# EAGLE library part ESP8266-01 (library lcTempLogger)
ESP8266 Wifi module 01
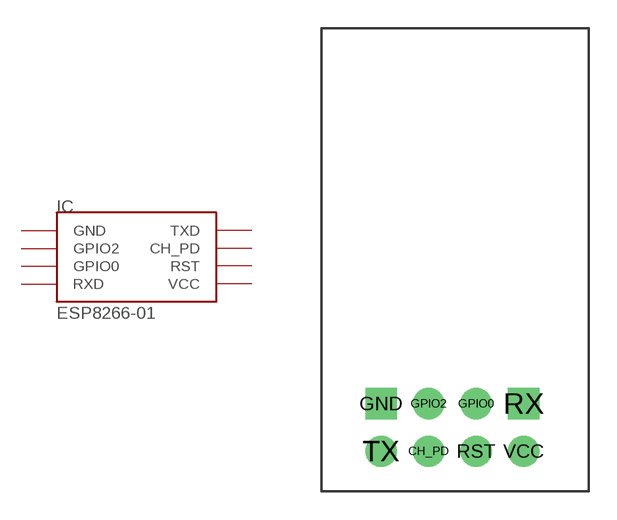
[diagram p0: symbol with the pads of ESP01; footprint ESP01]

Designator prefix IC

## ESP8266-01  [ESP01]
CH_PD  CH_PD
GND  GND
GPIO0  GPIO0
GPIO2  GPIO2
RST  RST
RX  RXD
TX  TXD
VCC  VCC

## Footprint ESP01 (pad centres in mm)
ESP8266 Module 01
drill 0.8 pad 1.676: CH_PD -1.27,-7.62; GPIO0 1.27,-5.08; GPIO2 -1.27,-5.08; RST 1.27,-7.62; TX -3.81,-7.62; VCC 3.81,-7.62
drill 0.8 pad 1.676 square: GND -3.81,-5.08; RX 3.81,-5.08